# Altium schematic symbol library 0ZCJ0005FF2E.SchLib: 5 symbols
Pins are listed as number, name and electrical type; pins without a type are passive.

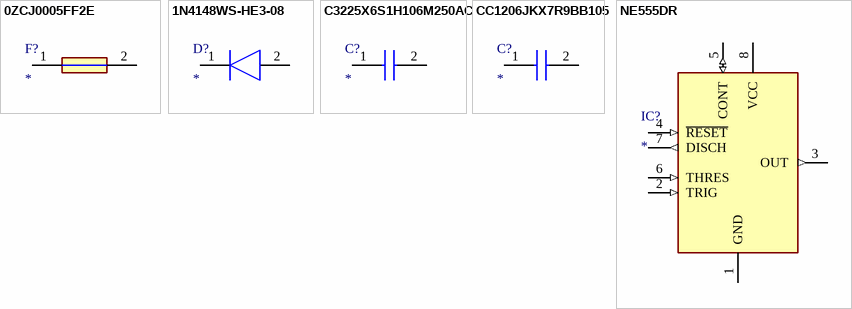
[diagram p0: symbols 0ZCJ0005FF2E to NE555DR]

## 0ZCJ0005FF2E
designator F?
Fuse; Manufacturer_Name: Bel Circuit Protection; Manufacturer_Part_Number: 0ZCJ0005FF2E; Description: BEL FUSE - CIRCUIT PROTECTION - 0ZCJ0005FF2E - FUSE; Datasheet Link: https://www.belfuse.com/resources/datasheets/circuitprotection/ds-cp-0zcj-series.pdf; Height: 0.85mm; Arrow Part Number: 0ZCJ0005FF2E; Arrow Price/Stock: https://www.arrow.com/en/products/0zcj0005ff2e/bel-group
footprint FUSC3216X85N
pins: 1, 2

## 1N4148WS-HE3-08
designator D?
Diode; Manufacturer_Name: Vishay; Manufacturer_Part_Number: 1N4148WS-HE3-08; Datasheet Link: https://componentsearchengine.com/Datasheets/2/1N4148WS-HE3-08.pdf; Height: 1.15mm; Mouser Part Number: 78-1N4148WS-HE3-08; Mouser Price/Stock: https://www.mouser.co.uk/ProductDetail/Vishay-Semiconductors/1N4148WS-HE3-08?qs=ROh%252BA47s9d0ee84EGrxrSQ%3D%3D; Arrow Part Number: 1N4148WS-HE3-08; Arrow Price/Stock: https://www.arrow.com/en/products/1n4148ws-he3-08/vishay
footprint SOD2713X115N
pins: 1 K, 2 A

## C3225X6S1H106M250AC
designator C?
Capacitor; Manufacturer_Name: TDK; Manufacturer_Part_Number: C3225X6S1H106M250AC; Datasheet Link: https://product.tdk.com/system/files/dam/doc/product/capacitor/ceramic/mlcc/catalog/mlcc_commercial_general_en.pdf; Height: 2.8mm; Mouser Part Number: 810-C3225X6S1H106M5A; Mouser Price/Stock: https://www.mouser.co.uk/ProductDetail/TDK/C3225X6S1H106M250AC/?qs=xLDY6iXSiQbbC9tdZ0ElPg%3D%3D; Arrow Part Number: C3225X6S1H106M250AC; Arrow Price/Stock: https://www.arrow.com/en/products/c3225x6s1h106m250ac/tdk
footprint C3225_Commercial
pins: 1, 2

## CC1206JKX7R9BB105
designator C?
Capacitor; Manufacturer_Name: YAGEO (PHYCOMP); Manufacturer_Part_Number: CC1206JKX7R9BB105; Datasheet Link: https://www.mouser.de/datasheet/2/447/UPY-GPHC_X7R_6.3V-to-50V_18-1154002.pdf; Height: 1.8mm; Mouser Part Number: 603-CC1206JK7R9BB105; Mouser Price/Stock: https://www.mouser.co.uk/ProductDetail/Yageo/CC1206JKX7R9BB105?qs=mzRxyRlhVdtjvgmRPCSUPQ%3D%3D; Arrow Part Number: CC1206JKX7R9BB105; Arrow Price/Stock: https://www.arrow.com/en/products/cc1206jkx7r9bb105/yageo
footprint CAPC3216X180N
pins: 1, 2

## NE555DR
designator IC?
Integrated Circuit; Manufacturer_Name: Texas Instruments; Manufacturer_Part_Number: NE555DR; Datasheet Link: http://www.ti.com/lit/ds/symlink/ne555.pdf; Height: 1.75mm; Mouser Part Number: 595-NE555DR; Mouser Price/Stock: https://www.mouser.com/Search/Refine.aspx?Keyword=595-NE555DR; RS Part Number: 1218414; RS Price/Stock: http://uk.rs-online.com/web/p/products/1218414
footprint SOIC127P600X175-8N
pins: 1 GND (power), 2 TRIG (in), 3 OUT (out), 4 ~{RESET} (in), 5 CONT (io), 6 THRES (in), 7 DISCH (out), 8 VCC (power)